# Altium schematic symbol library Schlib1.SchLib: 2 symbols
Pins are listed as number, name and electrical type; pins without a type are passive.

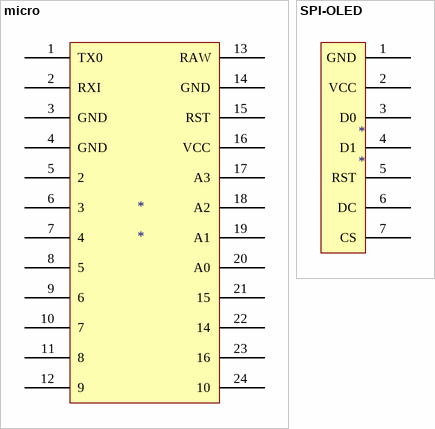
[diagram p0: symbols micro to SPI-OLED]

## micro
designator *
pins: 1 TX0, 2 RXI, 3 GND, 4 GND, 5 2, 6 3, 7 4, 8 5, 9 6, 10 7, 11 8, 12 9, 13 RAW, 14 GND, 15 RST, 16 VCC, 17 A3, 18 A2, 19 A1, 20 A0, 21 15, 22 14, 23 16, 24 10

## SPI-OLED
designator *
pins: 1 GND, 2 VCC, 3 D0, 4 D1, 5 RST, 6 DC, 7 CS